# Altium schematic symbol library 2026-03-14_23-02-57.SchLib: 1 symbol
Pins are listed as number, name and electrical type; pins without a type are passive.

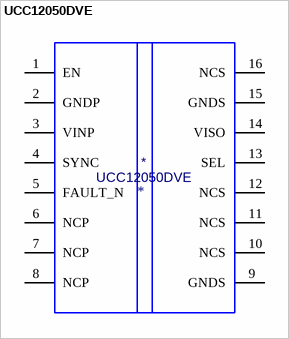
[diagram p0: symbol UCC12050DVE]

## UCC12050DVE
designator *  value UCC12050DVE
ki_fp_filters: DVE0016A; Footprint: DVE0016A; Supplier: https://www.ti.com/lit/gpn/ucc12050; ki_keywords: UCC12050DVE
footprint DVE0016A
pins: 1 EN, 2 GNDP, 3 VINP, 4 SYNC, 5 FAULT_N, 6 NCP, 7 NCP, 8 NCP, 9 GNDS, 10 NCS, 11 NCS, 12 NCS, 13 SEL, 14 VISO, 15 GNDS, 16 NCS